# Altium footprint library MergenElektronik_Capacitors_AluminumElectrolytics_SMDs.PcbLib: 4 footprints
Each footprint in its own frame and in the unit in brackets; x right, y up, seen from the top. Pads: shape width x height; smd on the part's side, far side on the other; paste and mask are expansions set on the pad; w line width, h text height; cw(c..) or ccw(c..) is an arc to the next point about the centre after c.
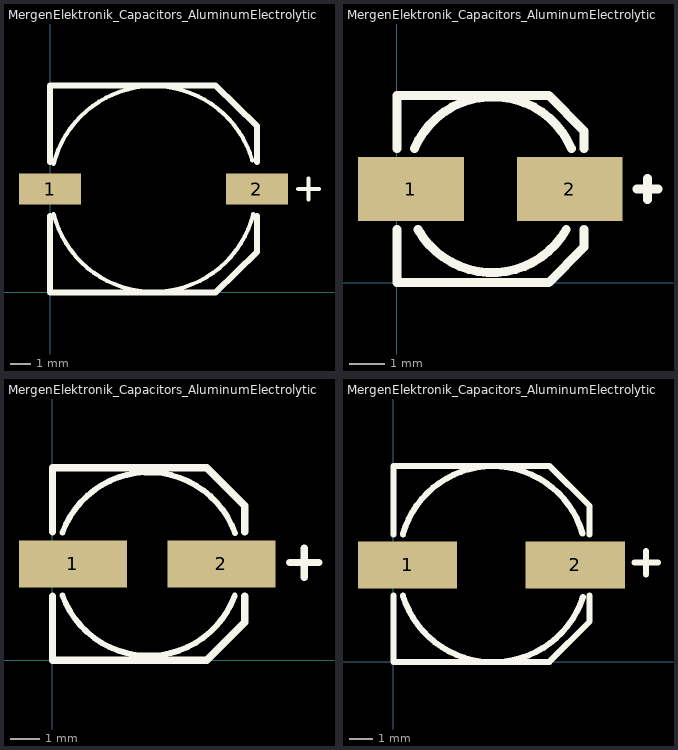
[diagram p0: the footprints below, top view; thin cyan lines are the x and y axes]

## MergenElektronik_Capacitors_AluminumElectrolytics_SMDs_10x10.5mm [mm] "10mm Diameter 10.5mm Height"
pads (2):
  rect 3x1.5 smd: 1(0,5) 2(10,5)
Top Overlay:
  lines w0.2: 0.176,3.794 ccw(c5,5) 9.824,3.794 ; 0.176,6.206 cw(c5,5) 9.774,6.392 ; 12,5 13,5 ; 12.5,4.5 12.5,5.5
  lines w0.3: 0,3.7 0,0 8,0 10,1.95 10,3.7 ; 0,6.3 0,10 8,10 10,8.05 10,6.3
3D body: height 10.64, standoff 0.05, extent -0.6,-0.15 10.4,10.15

## MergenElektronik_Capacitors_AluminumElectrolytics_SMDs_865080142007 [mm] "865080142007"
pads (2):
  rect 3x1.8 smd: 1(0.4,2.65) 2(4.9,2.65)
Top Overlay:
  lines w0.254: 0,1.5 0,0 4.3,0 5.3,1 5.3,1.5 ; 0,3.8 0,5.3 4.3,5.3 5.3,4.3 5.3,3.8 ; 0.5,3.8 cw(c2.723,2.847) 4.946,3.8 ; 0.6,1.5 ccw(c2.7,2.7) 4.8,1.5 ; 6.8,2.65 7.4,2.65 ; 7.1,2.35 7.1,2.95
3D body: height 5.35, standoff -0.15, extent -0.4,0 5.6,5.3

## MergenElektronik_Capacitors_AluminumElectrolytics_SMDs_865080545012 [mm] "865080545012"
pads (2):
  rect 3.7x1.6 smd: 1(0.7,3.3) 2(5.8,3.3)
Top Overlay:
  lines w0.2: 0.343,2.216 ccw(c3.3,3.3) 6.257,2.216 ; 0.343,4.384 cw(c3.3,3.3) 6.266,4.359
  lines w0.254: 0,2.2 0,0 5.3,0 6.6,1.3 6.6,2.2 ; 0,4.4 0,6.6 5.3,6.6 6.6,5.3 6.6,4.4 ; 8.15,3.35 9.15,3.35 ; 8.65,2.85 8.65,3.85
3D body: height 7.55, standoff -0.15, extent -0.35,0 6.95,6.6

## MergenElektronik_Capacitors_AluminumElectrolytics_SMDs_865080653016 [mm] "865080653016"
pads (2):
  rect 4.2x2 smd: 1(0.6,4.1) 2(7.7,4.1)
Top Overlay:
  lines w0.254: 0,2.8 0,0 6.6,0 8.3,1.7 8.3,2.8 ; 0,5.4 0,8 0,8.3 6.6,8.3 8.3,6.6 8.3,5.4 ; 0.4,2.8 ccw(c4.221,3.983) 8.026,2.749 ; 0.4,5.4 cw(c4.207,4.326) 8.007,5.426 ; 10.2,4.2 11.2,4.2 ; 10.7,3.7 10.7,4.7
3D body: height 10.35, standoff -0.15, extent -0.4,0 8.6,8.3